# Altium schematic symbol library Schlib1.SchLib: 2 symbols
Pins are listed as number, name and electrical type; pins without a type are passive.

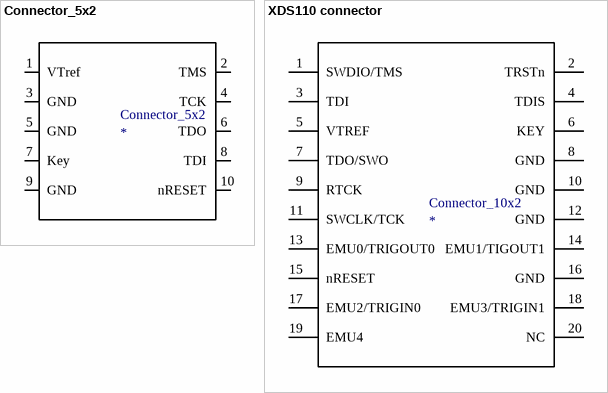
[diagram p0: symbols Connector_5x2 to XDS110 connector]

## Connector_5x2
designator Connector_5x2
footprint 5x2 pin
pins: 1 VTref, 2 TMS, 3 GND, 4 TCK, 5 GND, 6 TDO, 7 Key, 8 TDI, 9 GND, 10 nRESET

## XDS110 connector
designator Connector_10x2
footprint 10x2 pin
pins: 1 SWDIO/TMS, 2 TRSTn, 3 TDI, 4 TDIS, 5 VTREF, 6 KEY, 7 TDO/SWO, 8 GND, 9 RTCK, 10 GND, 11 SWCLK/TCK, 12 GND, 13 EMU0/TRIGOUT0, 14 EMU1/TIGOUT1, 15 nRESET, 16 GND, 17 EMU2/TRIGIN0, 18 EMU3/TRIGIN1, 19 EMU4, 20 NC